# Altium schematic symbol library Schlib1.SchLib: 42 symbols
Pins are listed as number, name and electrical type; pins without a type are passive.

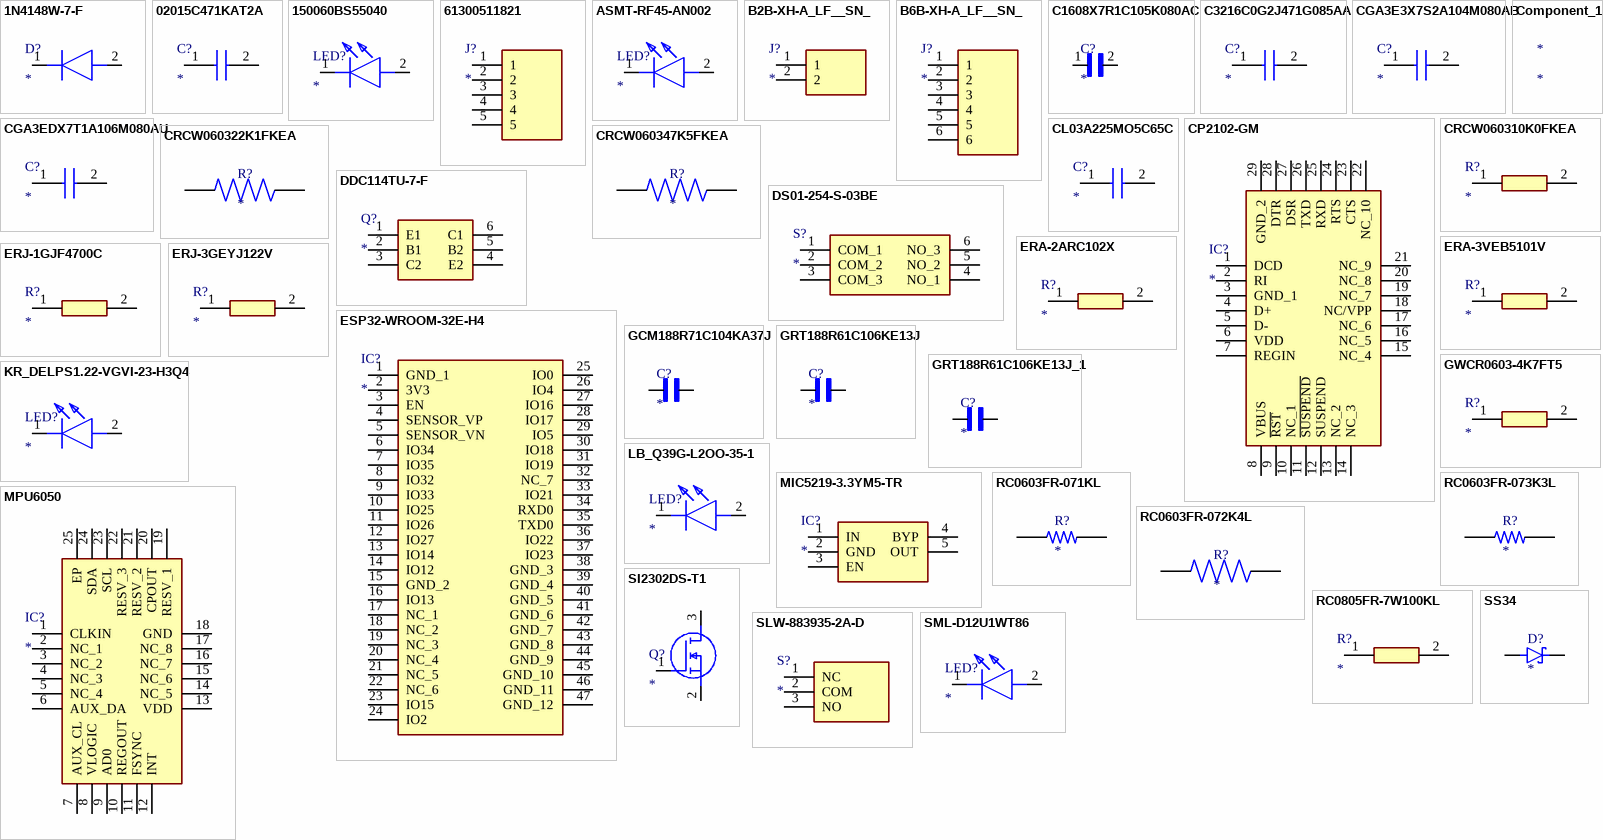
[diagram p0: symbols 1N4148W-7-F to SS34]

## 1N4148W-7-F
designator D?
Diode; Manufacturer_Name: Multicomp Pro; Manufacturer_Part_Number: 1N4148W-7-F; Datasheet Link: http://www.farnell.com/datasheets/2861325.pdf; Height: 1.25mm
footprint 1N4148W7F
pins: 1 K, 2 A

## 02015C471KAT2A
designator C?
Capacitor; Manufacturer_Name: Kyocera AVX; Manufacturer_Part_Number: 02015C471KAT2A; Datasheet Link: http://www.mouser.com/catalog/supplier/library/pdf/AVXSurfaceMountCeramic.pdf; Height: 0.33mm; Mouser Part Number: 581-02015C471KAT2A; Mouser Price/Stock: https://www.mouser.co.uk/ProductDetail/AVX/02015C471KAT2A?qs=k4kUdCzLgS7rjnclwGOjsA%3D%3D
footprint CAPC0603X33N
pins: 1, 2

## 150060BS55040
designator LED?
LED; Manufacturer_Name: Wurth Elektronik; Manufacturer_Part_Number: 150060BS55040; Datasheet Link: https://www.we-online.com/catalog/datasheet/150060BS55040.pdf; Height: 0.5mm; Mouser Part Number: 710-150060BS55040; Mouser Price/Stock: https://www.mouser.co.uk/ProductDetail/Wurth-Elektronik/150060BS55040?qs=fAHHVMwC%252BbiEgEQkEQqtiA%3D%3D
footprint LEDC1608X50N
pins: 1 K, 2 A

## 61300511821
designator J?
Connector; Manufacturer_Name: Wurth Elektronik; Manufacturer_Part_Number: 61300511821; Description: WURTH ELEKTRONIK - 61300511821 - PCB Receptacle; Datasheet Link: https://www.we-online.com/catalog/datasheet/61300511821.pdf; Height: 8.65mm; Mouser Part Number: 710-61300511821; Mouser Price/Stock: https://www.mouser.co.uk/ProductDetail/Wurth-Elektronik/61300511821?qs=iLbezkQI%252BsjtLywwvTh3KA%3D%3D
footprint 61300511821
pins: 1, 2, 3, 4, 5

## ASMT-RF45-AN002
designator LED?
LED; Manufacturer_Name: Avago Technologies; Manufacturer_Part_Number: ASMT-RF45-AN002; Datasheet Link: https://datasheet.datasheetarchive.com/originals/distributors/SFDatasheet-4/sf-00083833.pdf; Height: 0.55mm; Mouser Part Number: 630-ASMT-RF45-AN002; Mouser Price/Stock: https://www.mouser.co.uk/ProductDetail/Broadcom-Avago/ASMT-RF45-AN002?qs=7zQgkplsu%2FPO8CkxOLjU7Q%3D%3D
footprint LEDC1608X55N
pins: 1 K, 2 A

## B2B-XH-A_LF__SN_
designator J?
Connector; Manufacturer_Name: JST (JAPAN SOLDERLESS TERMINALS); Manufacturer_Part_Number: B2B-XH-A(LF)(SN); Datasheet Link: http://www.jst-mfg.com/product/pdf/eng/eXH.pdf; Height: 7mm; Mouser Part Number: 306-B2BXHALFSNP; Mouser Price/Stock: https://www.mouser.co.uk/ProductDetail/JST-Commercial/B2B-XH-ALFSN?qs=cdbOS8ANM9DdcSn9qRmfCw%3D%3D; Arrow Part Number: B2B-XH-A(LF)(SN); Arrow Price/Stock: https://www.arrow.com/en/products/b2b-xh-a-lf-sn/jst-manufacturing?utm_currency=USD&region=europe
footprint SHDR2W64P0X250_1X2_740X575X700P
pins: 1, 2

## B6B-XH-A_LF__SN_
designator J?
Connector; Manufacturer_Name: JST (JAPAN SOLDERLESS TERMINALS); Manufacturer_Part_Number: B6B-XH-A(LF)(SN); Datasheet Link: https://datasheet.lcsc.com/szlcsc/JST-Sales-America-B6B-XH-A-LF-SN_C144397.pdf; Height: 7mm; Mouser Part Number: 306-B6BXHALFSN; Mouser Price/Stock: https://www.mouser.co.uk/ProductDetail/JST-Commercial/B6B-XH-ALFSN?qs=cdbOS8ANM9AKmMmofXbwlw%3D%3D; Arrow Part Number: B6B-XH-A(LF)(SN); Arrow Price/Stock: https://www.arrow.com/en/products/b6b-xh-a-lf-sn/jst-manufacturing?utm_currency=USD&region=europe
footprint SHDR6W64P0X250_1X6_1740X575X700P
pins: 1, 2, 3, 4, 5, 6

## C1608X7R1C105K080AC
designator C?
1ÂµF Â±10% 16V Ceramic Capacitor X7R 0603 (1608 Metric); MF: TDK; MP: C1608X7R1C105K080AC; SnapEDA_Link: https://www.snapeda.com/parts/C1608X7R1C105K080AC/TDK-Lambda+Americas+Inc/view-part/?ref=snap; Check_prices: https://www.snapeda.com/parts/C1608X7R1C105K080AC/TDK-Lambda+Americas+Inc/view-part/?ref=eda; Price: None; Value: *; Availability: In Stock; Package: 1608 TDK; Purchase-URL: https://pricing.snapeda.com/search/part/C1608X7R1C105K080AC/?ref=eda
footprint CAPC1608X90N
pins: 1, 2

## C3216C0G2J471G085AA
designator C?
Capacitor; Manufacturer_Name: TDK; Manufacturer_Part_Number: C3216C0G2J471G085AA; Datasheet Link: https://product.tdk.com/info/en/catalog/datasheets/mlcc_commercial_midvoltage_en.pdf; Height: 1mm; Mouser Part Number: 810-16C0G2J471G085AA; Mouser Price/Stock: https://www.mouser.co.uk/ProductDetail/TDK/C3216C0G2J471G085AA?qs=IKkN%2F947nfCW4gS2LRUz6g%3D%3D
footprint CAPC3216X100N
pins: 1, 2

## CGA3E3X7S2A104M080AB
designator C?
Capacitor; Manufacturer_Name: TDK; Manufacturer_Part_Number: CGA3E3X7S2A104M080AB; Datasheet Link: http://docs-europe.electrocomponents.com/webdocs/14e9/0900766b814e9125.pdf; Height: 0.9mm; Mouser Part Number: 810-CGA3E3X7S2A104AB; Mouser Price/Stock: https://www.mouser.co.uk/ProductDetail/TDK/CGA3E3X7S2A104M080AB?qs=6JAMGB%252BEdkwRRFLL6ULUHQ%3D%3D; Arrow Part Number: CGA3E3X7S2A104M080AB; Arrow Price/Stock: https://www.arrow.com/en/products/cga3e3x7s2a104m080ab/tdk?region=nac
footprint CAPC1608X90N
pins: 1, 2

## CGA3EDX7T1A106M080AU
designator C?
Capacitor; Manufacturer_Name: TDK; Manufacturer_Part_Number: CGA3EDX7T1A106M080AU; Datasheet Link: https://product.tdk.com/system/files/dam/doc/product/capacitor/ceramic/mlcc/catalog/mlcc_automotive_general_en.pdf; Height: 0.9mm; Mouser Part Number: 810-CGA3EDX7T1A106M0; Mouser Price/Stock: https://www.mouser.co.uk/ProductDetail/TDK/CGA3EDX7T1A106M080AU?qs=ZcfC38r4PovL%2FBNBUzzBFw%3D%3D
footprint CAPC1608X90N
pins: 1, 2

## CL03A225MO5C65C
designator C?
Capacitor; Manufacturer_Name: SAMSUNG; Manufacturer_Part_Number: CL03A225MO5C65C; Datasheet Link: https://www.samsungsem.com/resources/file/global/support/product_catalog/MLCC.pdf; Height: 0.35mm; Mouser Part Number: 187-CL03A225MO5C65C; Mouser Price/Stock: https://www.mouser.co.uk/ProductDetail/Samsung-Electro-Mechanics/CL03A225MO5C65C?qs=i8QVZAFTkqSietvJWGyvXw%3D%3D
footprint CAPC0603X35N
pins: 1, 2

## Component_1
designator *

## CP2102-GM
designator IC?
Integrated Circuit; Manufacturer_Name: Silicon Labs; Manufacturer_Part_Number: CP2102-GM; Datasheet Link: https://datasheet.datasheetarchive.com/originals/distributors/Datasheets_SAMA/e8061a629457dcd57bb8c8d46a00fbc0.pdf; Height: 1mm; Mouser Part Number: 634-CP2102-GM; Mouser Price/Stock: https://www.mouser.co.uk/ProductDetail/Silicon-Labs/CP2102-GM?qs=yHCtFi5ROqJvCcyR88R4Pg%3D%3D; Arrow Part Number: CP2102-GM; Arrow Price/Stock: https://www.arrow.com/en/products/cp2102-gm/silicon-labs?utm_currency=USD&region=europe
footprint QFN50P500X500X100-29N-D
pins: 1 DCD, 2 RI, 3 GND_1, 4 D+, 5 D-, 6 VDD, 7 REGIN, 8 VBUS, 9 ~{RST}, 10 NC_1, 11 ~{SUSPEND}, 12 SUSPEND, 13 NC_2, 14 NC_3, 15 NC_4, 16 NC_5, 17 NC_6, 18 NC/VPP, 19 NC_7, 20 NC_8, 21 NC_9, 22 NC_10, 23 CTS, 24 RTS, 25 RXD, 26 TXD, 27 DSR, 28 DTR, 29 GND_2

## CRCW060310K0FKEA
designator R?
Resistor; Manufacturer_Name: Vishay; Manufacturer_Part_Number: CRCW060310K0FKEA; Datasheet Link: http://www.vishay.com/docs/20035/dcrcwe3.pdf; Height: 0.5mm; Mouser Part Number: 71-CRCW0603-10K-E3; Mouser Price/Stock: https://www.mouser.co.uk/ProductDetail/Vishay-Dale/CRCW060310K0FKEA?qs=pAO1Z172M84BVnhDjtnsoQ%3D%3D; Arrow Part Number: CRCW060310K0FKEA; Arrow Price/Stock: https://www.arrow.com/en/products/crcw060310k0fkea/vishay?region=nac
footprint RESC1608X50N
pins: 1, 2

## CRCW060322K1FKEA
designator R?
Resistor,Thick Film,22.1 Kilohms,0.1 W,1%,SMT,0603,TCR 37 ppm/DegC,Cut Tape | Vishay Dale CRCW060322K1FKEA; SnapEDA_Link: https://www.snapeda.com/parts/CRCW060322K1FKEA/Vishay+Dale/view-part/?ref=snap; Package: 1508 Vishay; Value: *; MF: Vishay Dale; MP: CRCW060322K1FKEA; Check_prices: https://www.snapeda.com/parts/CRCW060322K1FKEA/Vishay+Dale/view-part/?ref=eda
footprint RESC1508X50N
pins: 1, 2

## CRCW060347K5FKEA
designator R?
Resistor;Thick Film;47.5 Kilohms;0.1 W;1%;SMT;0603;TCR 37 ppm/DegC;Tape and Reel | Vishay Dale CRCW060347K5FKEA; SnapEDA_Link: https://www.snapeda.com/parts/CRCW060347K5FKEA/Vishay/view-part/?ref=snap; Package: 1508 Vishay; Value: *; MF: Vishay; MP: CRCW060347K5FKEA; Check_prices: https://www.snapeda.com/parts/CRCW060347K5FKEA/Vishay/view-part/?ref=eda
footprint RESC1508X50N
pins: 1, 2

## DDC114TU-7-F
designator Q?
Transistor BJT NPN; Manufacturer_Name: Diodes Incorporated; Manufacturer_Part_Number: DDC114TU-7-F; Datasheet Link: https://www.diodes.com//assets/Datasheets/DDC_XXXX_U.pdf; Height: 1.1mm; Mouser Part Number: 621-DDC114TU-F; Mouser Price/Stock: https://www.mouser.co.uk/ProductDetail/Diodes-Incorporated/DDC114TU-7-F?qs=kw05dxSAXz1KFBQK0OZaZg%3D%3D; Arrow Part Number: DDC114TU-7-F; Arrow Price/Stock: https://www.arrow.com/en/products/ddc114tu-7-f/diodes-incorporated?utm_currency=USD&region=nac
footprint SOT65P210X110-6N
pins: 1 E1, 2 B1, 3 C2, 4 E2, 5 B2, 6 C1

## DS01-254-S-03BE
designator S?
Switch; Manufacturer_Name: Same Sky; Manufacturer_Part_Number: DS01-254-S-03BE; Datasheet Link: https://www.sameskydevices.com/product/resource/supplyframepdf/ds01-254.pdf; Height: 7mm; Mouser Part Number: 490-DS01-254-S-03BE; Mouser Price/Stock: https://www.mouser.co.uk/ProductDetail/Same-Sky/DS01-254-S-03BE?qs=wnTfsH77Xs5VL0Hs2OQIYw%3D%3D; Arrow Part Number: DS01-254-S-03BE; Arrow Price/Stock: https://www.arrow.com/en/products/ds01-254-s-03be/cui-devices?region=nac
footprint DS01254S03BE
pins: 1 COM_1, 2 COM_2, 3 COM_3, 4 NO_1, 5 NO_2, 6 NO_3

## ERA-2ARC102X
designator R?
Resistor; Manufacturer_Name: Panasonic; Manufacturer_Part_Number: ERA-2ARC102X; Datasheet Link: http://industrial.panasonic.com/cdbs/www-data/pdf/RDM0000/AOA0000C307.pdf; Height: 0.4mm; Mouser Part Number: 667-ERA-2ARC102X; Mouser Price/Stock: https://www.mouser.co.uk/ProductDetail/Panasonic/ERA-2ARC102X?qs=kmv%2FWw32SUNfpV2hKlE9eQ%3D%3D; Arrow Part Number: ERA-2ARC102X; Arrow Price/Stock: https://www.arrow.com/en/products/era-2arc102x/panasonic?utm_currency=USD&region=nac
footprint ERA2AED122X
pins: 1, 2

## ERA-3VEB5101V
designator R?
Resistor; Manufacturer_Name: Panasonic; Manufacturer_Part_Number: ERA-3VEB5101V; Datasheet Link: http://industrial.panasonic.com/cdbs/www-data/pdf/RDM0000/RDM0000C331.pdf; Height: 0.4mm; Mouser Part Number: 667-ERA-3VEB5101V; Mouser Price/Stock: https://www.mouser.co.uk/ProductDetail/Panasonic/ERA-3VEB5101V?qs=OlC7AqGiEDl9tf8gy86hUQ%3D%3D
footprint ERA3KV_(0603)
pins: 1, 2

## ERJ-1GJF4700C
designator R?
Resistor; Manufacturer_Name: Panasonic; Manufacturer_Part_Number: ERJ-1GJF4700C; Datasheet Link: https://industrial.panasonic.com/cdbs/www-data/pdf/RDA0000/AOA0000C304.pdf; Height: 0.26mm; Mouser Part Number: 667-ERJ-1GJF4700C; Mouser Price/Stock: https://www.mouser.co.uk/ProductDetail/Panasonic/ERJ-1GJF4700C?qs=OcgtsXO%252B3gu9AFcFTiiiHQ%3D%3D
footprint ERJ1GJJ2R4C
pins: 1, 2

## ERJ-3GEYJ122V
designator R?
Resistor; Manufacturer_Name: Panasonic; Manufacturer_Part_Number: ERJ-3GEYJ122V; Datasheet Link: http://docs-europe.electrocomponents.com/webdocs/13ba/0900766b813ba21b.pdf; Height: 0.55mm; Mouser Part Number: 667-ERJ-3GEYJ122V; Mouser Price/Stock: http://www.mouser.com/Search/ProductDetail.aspx?qs=66DK8nO8gJD4IDjQwkcMjA%3d%3d; Arrow Part Number: ERJ-3GEYJ122V; Arrow Price/Stock: https://www.arrow.com/en/products/erj-3geyj122v/panasonic?region=europe
footprint ERJ3EKF1000V
pins: 1, 2

## ESP32-WROOM-32E-H4
designator IC?
Integrated Circuit; Manufacturer_Name: Espressif Systems; Manufacturer_Part_Number: ESP32-WROOM-32E-H4; Datasheet Link: https://www.espressif.com/sites/default/files/documentation/esp32-wroom-32e_esp32-wroom-32ue_datasheet_en.pdf; Height: 3.25mm; Mouser Part Number: 356-ESP32WRM320EH3PS; Mouser Price/Stock: https://www.mouser.co.uk/ProductDetail/Espressif-Systems/ESP32-WROOM-32E-H4?qs=Li%252BoUPsLEnuUxeqGSCz%252BcA%3D%3D
footprint ESP32WROOM32EH4
pins: 1 GND_1, 2 3V3, 3 EN, 4 SENSOR_VP, 5 SENSOR_VN, 6 IO34, 7 IO35, 8 IO32, 9 IO33, 10 IO25, 11 IO26, 12 IO27, 13 IO14, 14 IO12, 15 GND_2, 16 IO13, 17 NC_1, 18 NC_2, 19 NC_3, 20 NC_4, 21 NC_5, 22 NC_6, 23 IO15, 24 IO2, 25 IO0, 26 IO4, 27 IO16, 28 IO17, 29 IO5, 30 IO18, 31 IO19, 32 NC_7, 33 IO21, 34 RXD0, 35 TXD0, 36 IO22, 37 IO23, 38 GND_3, 39 GND_4, 40 GND_5, 41 GND_6, 42 GND_7, 43 GND_8, 44 GND_9, 45 GND_10, 46 GND_11, 47 GND_12

## GCM188R71C104KA37J
designator C?
SMD Capacitor X7R(EIA) with Capacitance: 0.10uF Tol. 10%. Rated Voltage: 16Vdc; MF: Murata; MP: GCM188R71C104KA37J; SnapEDA_Link: https://www.snapeda.com/parts/GCM188R71C104KA37J/Murata/view-part/?ref=snap; Package: 1608 Murata; Value: *; Check_prices: https://www.snapeda.com/parts/GCM188R71C104KA37J/Murata/view-part/?ref=eda
footprint CAPC1608X90N
pins: 1, 2

## GRT188R61C106KE13J
designator C?
SMD capacitor X5R(EIA) with capacitance 10uF Tol.10%. Rated voltage 16Vdc 85C; MF: Murata; MP: GRT188R61C106KE13J; SnapEDA_Link: https://www.snapeda.com/parts/GRT188R61C106KE13J/Murata/view-part/?ref=snap; Package: 1608 Murata; Value: *; Check_prices: https://www.snapeda.com/parts/GRT188R61C106KE13J/Murata/view-part/?ref=eda
footprint CAPC1608X95N
pins: 1, 2

## GRT188R61C106KE13J_1
designator C?
SMD capacitor X5R(EIA) with capacitance 10uF Tol.10%. Rated voltage 16Vdc 85C; MF: Murata; MP: GRT188R61C106KE13J; SnapEDA_Link: https://www.snapeda.com/parts/GRT188R61C106KE13J/Murata/view-part/?ref=snap; Package: 1608 Murata; Value: *; Check_prices: https://www.snapeda.com/parts/GRT188R61C106KE13J/Murata/view-part/?ref=eda
footprint CAPC1608X95N
pins: 1, 2

## GWCR0603-4K7FT5
designator R?
Resistor; Manufacturer_Name: TT Electronics; Manufacturer_Part_Number: GWCR0603-4K7FT5; Datasheet Link: https://www.mouser.co.uk/datasheet/2/414/GWCR-1528385.pdf; Height: 0.55mm; Mouser Part Number: 756-GWCR0603-4K7FT5; Mouser Price/Stock: https://www.mouser.co.uk/ProductDetail/Welwyn-Components-TT-Electronics/GWCR0603-4K7FT5?qs=EU6FO9ffTweXCi9%252Ba9OJ9g%3D%3D
footprint RESC1608X55N
pins: 1, 2

## KR_DELPS1.22-VGVI-23-H3Q4
designator LED?
LED; Manufacturer_Name: ams OSRAM; Manufacturer_Part_Number: KR DELPS1.22-VGVI-23-H3Q4; Datasheet Link: https://look.ams-osram.com/m/71cad974eca389fc/original/KR-DELPS1-22.pdf; Height: 0.7mm; Mouser Part Number: 720-KRDELPS122VGVI3H; Mouser Price/Stock: https://www.mouser.co.uk/ProductDetail/ams-OSRAM/KR-DELPS1.22-VGVI-23-H3Q4?qs=vvQtp7zwQdMjUadvrCUF1Q%3D%3D
footprint KRDELPS122VGVI23H3Q4
pins: 1 K, 2 A

## LB_Q39G-L2OO-35-1
designator LED?
LED; Manufacturer_Name: ams OSRAM; Manufacturer_Part_Number: LB Q39G-L2OO-35-1; Datasheet Link: http://www.mouser.com/ds/2/311/LBQ39G-CHIPLED0603-553388.pdf; Height: 0.4mm; Mouser Part Number: 720-LBQ39GL2N2351; Mouser Price/Stock: https://www.mouser.co.uk/ProductDetail/ams-OSRAM/LB-Q39G-L2OO-35-1?qs=74fRo9GAWsxvZBH6a5xY%252BA%3D%3D; Arrow Part Number: LB Q39G-L2OO-35-1; Arrow Price/Stock: https://www.arrow.com/en/products/lbq39g-l2oo-35-1/osram-opto-semiconductors
footprint LEDC1608X40N
pins: 1 K, 2 A

## MIC5219-3.3YM5-TR
designator IC?
Integrated Circuit; Manufacturer_Name: Microchip; Manufacturer_Part_Number: MIC5219-3.3YM5-TR; Datasheet Link: http://www.microchip.com/mymicrochip/filehandler.aspx?ddocname=en579712; Height: 1.45mm; Mouser Part Number: 998-MIC5219-3.3YM5TR; Mouser Price/Stock: https://www.mouser.co.uk/ProductDetail/Microchip-Technology/MIC5219-3.3YM5-TR?qs=U6T8BxXiZAWojkIJMtSJlw%3D%3D; Arrow Part Number: MIC5219-3.3YM5-TR; Arrow Price/Stock: https://www.arrow.com/en/products/mic5219-3.3ym5-tr/microchip-technology?region=europe
footprint SOT95P280X145-5N
pins: 1 IN, 2 GND, 3 EN, 4 BYP, 5 OUT

## MPU6050
designator IC?
Integrated Circuit; Manufacturer_Name: TDK; Manufacturer_Part_Number: MPU6050; Datasheet Link: https://invensense.tdk.com/wp-content/uploads/2015/02/MPU-6000-Datasheet1.pdf; Height: 0.95mm
footprint MPU6050
pins: 1 CLKIN, 2 NC_1, 3 NC_2, 4 NC_3, 5 NC_4, 6 AUX_DA, 7 AUX_CL, 8 VLOGIC, 9 AD0, 10 REGOUT, 11 FSYNC, 12 INT, 13 VDD, 14 NC_5, 15 NC_6, 16 NC_7, 17 NC_8, 18 GND, 19 RESV_1, 20 CPOUT, 21 RESV_2, 22 RESV_3, 23 SCL, 24 SDA, 25 EP

## RC0603FR-071KL
designator R?
1 kOhms Â±1% 0.1W, 1/10W Chip Resistor 0603 (1608 Metric) Moisture Resistant Thick Film; MF: Yageo; MP: RC0603FR-071KL; SnapEDA_Link: https://www.snapeda.com/parts/RC0603FR-071KL/Yageo/view-part/?ref=snap; Package: 0603 Yageo; Value: *; Check_prices: https://www.snapeda.com/parts/RC0603FR-071KL/Yageo/view-part/?ref=eda
footprint RESC1607X60N
pins: 1, 2

## RC0603FR-072K4L
designator R?
2.4 kOhms Â±1% 0.1W, 1/10W Chip Resistor 0603 (1608 Metric) Moisture Resistant Thick Film; MF: Yageo; MP: RC0603FR-072K4L; SnapEDA_Link: https://www.snapeda.com/parts/RC0603FR-072K4L/Yageo/view-part/?ref=snap; Package: 0603 Yageo; Value: *; Check_prices: https://www.snapeda.com/parts/RC0603FR-072K4L/Yageo/view-part/?ref=eda
footprint RESC1607X60N
pins: 1, 2

## RC0603FR-073K3L
designator R?
3.3 kOhms ±1% 0.1W, 1/10W Chip Resistor 0603 (1608 Metric) Moisture Resistant Thick Film; MF: Yageo; MP: RC0603FR-073K3L; SnapEDA_Link: https://www.snapeda.com/parts/RC0603FR-073K3L/Yageo/view-part/?ref=snap; Package: 0603 Yageo; Value: *; Check_prices: https://www.snapeda.com/parts/RC0603FR-073K3L/Yageo/view-part/?ref=eda
footprint RESC1607X60N
pins: 1, 2

## RC0805FR-7W100KL
designator R?
Resistor; Manufacturer_Name: KEMET; Manufacturer_Part_Number: RC0805FR-7W100KL; Datasheet Link: http://www.yageo.com/documents/recent/PYu-RC_Group_51_RoHS_L_10.pdf; Height: 0.6mm; Mouser Part Number: 603-RC0805FR-7W100KL; Mouser Price/Stock: https://www.mouser.co.uk/ProductDetail/Yageo/RC0805FR-7W100KL?qs=tggtontpCXPWF1UQCat0Yw%3D%3D
footprint RESC2012X60N
pins: 1, 2

## SI2302DS-T1
designator Q?
MOSFET (N-Channel); Manufacturer_Name: Vishay; Manufacturer_Part_Number: SI2302DS-T1; Datasheet Link: https://4donline.ihs.com/images/VipMasterIC/IC/SILX/SILXS08192/SILXS08192-1.pdf?hkey=EF798316E3902B6ED9A73243A3159BB0; Height: 1.12mm; Mouser Part Number: 781-SI2302DS; Mouser Price/Stock: https://www.mouser.co.uk/ProductDetail/Vishay-Siliconix/SI2302DS-T1?qs=Vtbibb3IBkf5ybaLingfiw%3D%3D
footprint SOT95P237X112-3N
pins: 1 G, 2 S, 3 D

## SLW-883935-2A-D
designator S?
Switch; Manufacturer_Name: Same Sky; Manufacturer_Part_Number: SLW-883935-2A-D; Datasheet Link: https://www.sameskydevices.com/product/resource/supplyframepdf/slw-883935-2a-d.pdf; Height: 6.1mm; Mouser Part Number: 179-SLW-883935-2A-D; Mouser Price/Stock: https://www.mouser.co.uk/ProductDetail/Same-Sky/SLW-883935-2A-D?qs=1Kr7Jg1SGW%2Fv9j8ky6fn%2FQ%3D%3D; Arrow Part Number: SLW-883935-2A-D; Arrow Price/Stock: https://www.arrow.com/en/products/slw-883935-2a-d/cui-devices?utm_currency=USD&region=nac
footprint SLW8839352AD
pins: 1 NC, 2 COM, 3 NO

## SML-D12U1WT86
designator LED?
LED; Manufacturer_Name: ROHM Semiconductor; Manufacturer_Part_Number: SML-D12U1WT86; Datasheet Link: https://componentsearchengine.com/Datasheets/1/SML-D12U1WT86.pdf; Height: 0.65mm; Mouser Part Number: 755-SML-D12U1WT86; Mouser Price/Stock: https://www.mouser.co.uk/ProductDetail/ROHM-Semiconductor/SML-D12U1WT86?qs=M3jcYzEJUdEySuGkbjHEtQ%3D%3D
footprint LEDC1608X65N
pins: 1 K, 2 A

## SS34
designator D?
Diode Schottky 40 V 3A Surface Mount SMC (DO-214AB); MF: onsemi; MP: SS34; SnapEDA_Link: https://www.snapeda.com/parts/SS34/Onsemi/view-part/?ref=snap; Package: SMC-2 ON Semiconductor; Value: *; Check_prices: https://www.snapeda.com/parts/SS34/Onsemi/view-part/?ref=eda
footprint DIOM7959X265N
pins: A, C K

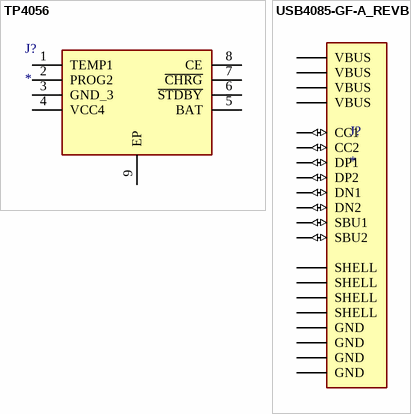
[diagram p1: symbols TP4056 to USB4085-GF-A_REVB]

## TP4056
designator J?
Connector; Manufacturer_Name: NanJing Top Power; Manufacturer_Part_Number: TP4056; Datasheet Link: https://dlnmh9ip6v2uc.cloudfront.net/datasheets/Prototyping/TP4056.pdf; Height: 1.75mm
footprint SOIC127P600X175-9N
pins: 1 TEMP1, 2 PROG2, 3 GND_3, 4 VCC4, 5 BAT, 6 ~{STDBY}, 7 ~{CHRG}, 8 CE, 9 EP

## USB4085-GF-A_REVB
designator J?
USB-C (USB TYPE-C) USB 2.0 æ’åº§è¿žæŽ¥å™¨ 24 (16+8 Dummy) ä½é€šå­”ã€ç›´è§’ã€ä½Žæˆæœ¬ã€3.46mm å¤–å½¢ã€16 é’ˆã€æ°´å¹³ã€é¡¶éƒ¨å®‰è£…; MF: Global Connector Technology; MP: USB4085-GF-A; SnapEDA_Link: https://www.snapeda.com/parts/USB4085-GF-A/Global+Connector+Technology/view-part/?ref=snap; Package: None; Value: *; Check_prices: https://www.snapeda.com/parts/USB4085-GF-A/Global+Connector+Technology/view-part/?ref=eda
footprint GCT_USB4085-GF-A_REVB
pins: A1 GND (power), A4 VBUS (power), A5 CC1 (io), A6 DP1 (io), A7 DN1 (io), A8 SBU1 (io), A9 VBUS (power), A12 GND (power), B1 GND (power), B4 VBUS (power), B5 CC2 (io), B6 DP2 (io), B7 DN2 (io), B8 SBU2 (io), B9 VBUS (power), B12 GND (power), S1 SHELL, S2 SHELL, S3 SHELL, S4 SHELL